# EAGLE library part RTC8564JE (library Echtzeituhr - RTC8564JE)
Name des Bauteiles: -->RTC8564JE Daten:Bauform : VSO120 Artikelnummer:#045172 Datenblatt:www.alldatasheet.com __________________________________________ generated by Eagle Description Tool am : 23.01.2014 10:55:17 erstellt von: Hm
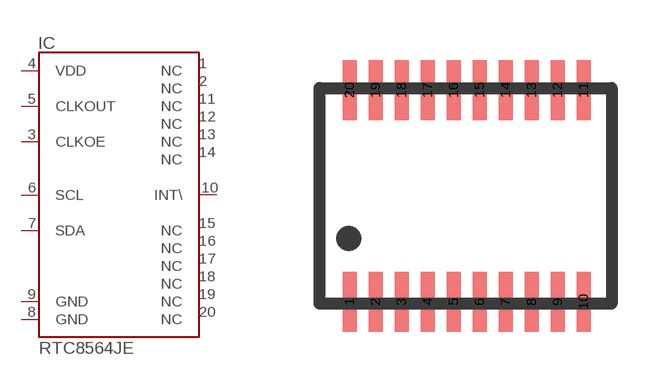
[diagram p0: symbol with the pads of VSOJ20; footprint VSOJ20]

Designator prefix IC

## RTC8564JESMD  [VSOJ20]
1  NC  nc
2  NC  nc
3  CLKOE  in
4  VDD  pwr
5  CLKOUT  out
6  SCL  in
7  SDA
8  GND  pwr
9  GND  pwr
10  INT\  out
11  NC  nc
12  NC  nc
13  NC  nc
14  NC  nc
15  NC  nc
16  NC  nc
17  NC  nc
18  NC  nc
19  NC  nc
20  NC  nc

## Footprint VSOJ20 (pad centres in mm)
smd 0.35 x 1.5: 1 -2.9,-2.65; 2 -2.25,-2.65; 3 -1.6,-2.65; 4 -0.95,-2.65; 5 -0.3,-2.65; 6 0.35,-2.65; 7 1,-2.65; 8 1.65,-2.65; 9 2.3,-2.65; 10 2.95,-2.65; 11 2.95,2.65; 12 2.3,2.65; 13 1.65,2.65; 14 1,2.65; 15 0.35,2.65; 16 -0.3,2.65; 17 -0.95,2.65; 18 -1.6,2.65; 19 -2.25,2.65; 20 -2.9,2.65